# Altium footprint library WE-TFC.PcbLib: 2 footprints
Each footprint in its own frame and in the unit in brackets; x right, y up, seen from the top. Pads: shape width x height; smd on the part's side, far side on the other; paste and mask are expansions set on the pad; w line width, h text height; cw(c..) or ccw(c..) is an arc to the next point about the centre after c.
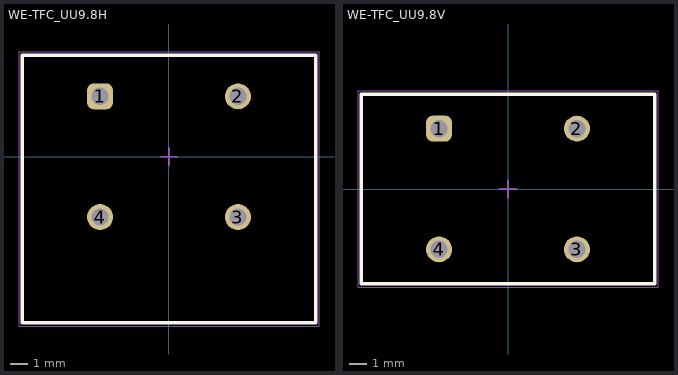
[diagram p0: the footprints below, top view; thin cyan lines are the x and y axes]

## WE-TFC_UU9.8H [mm] "THT Common Mode Power Line Choke, 4-leads, body 17x15.5mm"
height 12.5
pads (4):
  rrect50% 1.5x1.5 hole 1: 1(-4,3.5)
  round 1.5 hole 1: 2(4,3.5) 3(4,-3.5) 4(-4,-3.5)
Top Overlay:
  lines w0.2: -8.5,-9.624 -8.5,5.876 8.5,5.876 8.5,-9.624 -8.5,-9.624
Top Assembly:
  lines w0.1: -8.5,-9.624 8.5,-9.624 8.5,5.876 -8.5,5.876 -8.5,-9.624
Top Designator:
  text ".Designator" at -3.647,-0.357 h1
Top 3D Body:
  lines w0.1: -8.5,-9.624 -8.5,5.876 8.5,5.876 8.5,-9.624 -8.5,-9.624
Top Courtyard:
  lines w0.05: -8.7,-9.824 8.7,-9.824 8.7,6.076 -8.7,6.076 -8.7,-9.824
Top Component Center:
  lines w0.1: -0.5,0 0.5,0 ; 0,-0.5 0,0.5
3D body "744861xxx.stp": height 12.1, standoff -3.4, extent -7.849,-9.048 7.849,5.3

## WE-TFC_UU9.8V [mm] "Common Mode Power Line Choke, THT, 4-leads, body 17x11.5mm"
height 17
pads (4):
  rrect50% 1.5x1.5 hole 1: 1(-4,3.5)
  round 1.5 hole 1: 2(4,3.5) 3(4,-3.5) 4(-4,-3.5)
Top Overlay:
  lines w0.2: -8.5,-5.5 8.5,-5.5 8.5,5.5 -8.5,5.5 -8.5,-5.5
Top Assembly:
  lines w0.1: -8.5,-5.5 -8.5,5.5 8.5,5.5 8.5,-5.5 -8.5,-5.5
Top Designator:
  text ".Designator" at -3.647,-0.357 h1
Top 3D Body:
  lines w0.1: -8.5,-5.5 8.5,-5.5 8.5,5.5 -8.5,5.5 -8.5,-5.5
Top Courtyard:
  lines w0.05: -8.7,-5.7 -8.7,5.7 8.7,5.7 8.7,-5.7 -8.7,-5.7
Top Component Center:
  lines w0.1: -0.5,0 0.5,0 ; 0,-0.5 0,0.5
3D body "744862xxx.stp": height 15.85, standoff -2.9, extent -7.849,-5.3 7.849,5.3